# Altium schematic symbol library Res_Vishay_CW010R7100KE733_eec.SchLib: 1 symbol
Pins are listed as number, name and electrical type; pins without a type are passive.

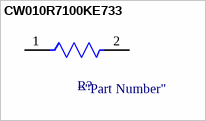
[diagram p0: symbol CW010R7100KE733]

## CW010R7100KE733
designator R?  (value not drawn)
pins: 1, 2